# EAGLE library part 8287 (library TABOR K1)
Octal BUFFER and LINE DRIVER, 3-state
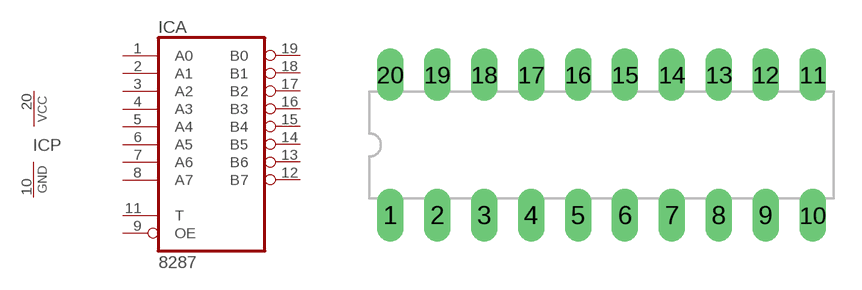
[diagram p29: symbol with the pads of DIL20; footprint DIL20]

Designator prefix IC; gates A=8287 P=PWR-GND-VCC

## 8287N  [DIL20]
1  A:A0  hiz
2  A:A1  hiz
3  A:A2  hiz
4  A:A3  hiz
5  A:A4  hiz
6  A:A5  hiz
7  A:A6  hiz
8  A:A7  hiz
9  A:OE  in
10  P:GND  pwr
11  A:T  in
12  A:B7  hiz
13  A:B6  hiz
14  A:B5  hiz
15  A:B4  hiz
16  A:B3  hiz
17  A:B2  hiz
18  A:B1  hiz
19  A:B0  hiz
20  P:VCC  pwr

## Footprint DIL20 (pad centres in mm)
Púzdro DIL20 : diera s pokovenim = 0,6 mm, vrtanie = 0,8mm
drill 0.813 pad 1.422 long: 1 -11.43,-3.81; 2 -8.89,-3.81; 3 -6.35,-3.81; 4 -3.81,-3.81; 5 -1.27,-3.81; 6 1.27,-3.81; 7 3.81,-3.81; 8 6.35,-3.81; 9 8.89,-3.81; 10 11.43,-3.81; 11 11.43,3.81; 12 8.89,3.81; 13 6.35,3.81; 14 3.81,3.81; 15 1.27,3.81; 16 -1.27,3.81; 17 -3.81,3.81; 18 -6.35,3.81; 19 -8.89,3.81; 20 -11.43,3.81